# Altium schematic symbol library EEEFK1H221GP.SchLib: 1 symbol
Pins are listed as number, name and electrical type; pins without a type are passive.

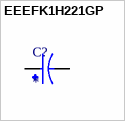
[diagram p0: symbol EEEFK1H221GP]

## EEEFK1H221GP
designator C?
220ÂµF 50V Aluminum Electrolytic Capacitors Radial, Can - SMD 5000 Hrs @ 105Â°C; MP: EEE-FK1H221GP; MF: Panasonic Electronic; SnapEDA_Link: https://www.snapeda.com/parts/EEE-FK1H221GP/Panasonic%20Electronic%20Components/view-part/1428461/?ref=snap; Package: RADIAL-2 Panasonic; Purchase-URL: https://pricing.snapeda.com/search/part/EEE-FK1H221GP/?ref=eda; Availability: In Stock; Price: None; Check_prices: https://www.snapeda.com/parts/EEE-FK1H221GP/Panasonic%20Electronic%20Components/view-part/1428461/?ref=eda; Value: *
footprint CAP_EEEFK1H221GP
pins: 1, 2